# Altium footprint library 662002235922.PcbLib: 1 footprints
Each footprint in its own frame and in the unit in brackets; x right, y up, seen from the top. Pads: shape width x height; smd on the part's side, far side on the other; paste and mask are expansions set on the pad; w line width, h text height; cw(c..) or ccw(c..) is an arc to the next point about the centre after c.
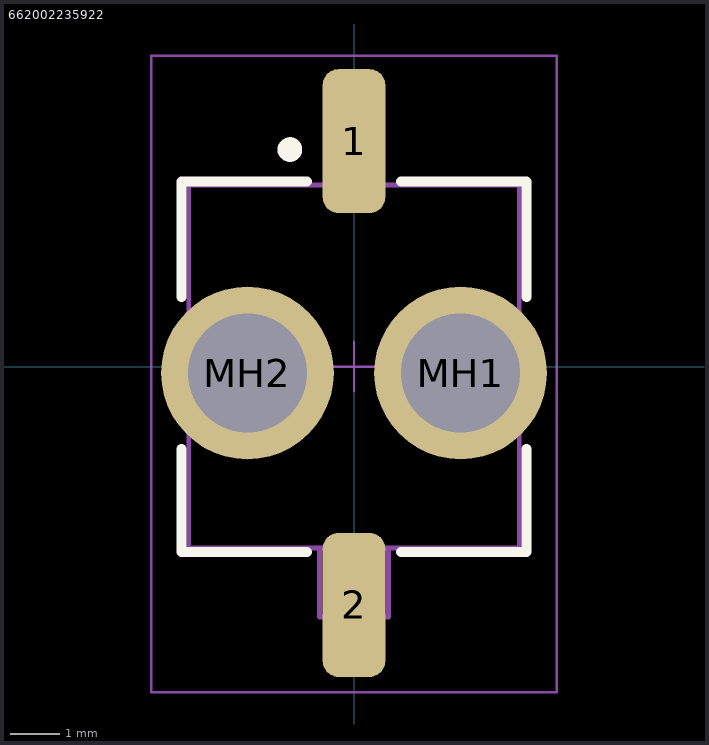
[diagram p0: the footprint, top view; thin cyan lines are the x and y axes]

## 662002235922 [mm]
pads (4):
  rrect50% 1.27x2.92 smd: 1(0,4.57) 2(0,-4.83)
  round 3.5 hole 2.41: MH1(2.16,-0.13) MH2(-2.16,-0.13)
Top Overlay:
  circle w0.25: c-1.3,4.4 r0.125
  lines w0.2: -3.5,-1.665 -3.5,-3.755 -0.95,-3.755 ; -3.5,1.405 -3.5,3.755 -0.95,3.755 ; 0.95,-3.755 3.5,-3.755 3.5,-1.665 ; 0.95,3.755 3.5,3.755 3.5,1.405
Top Assembly:
  lines w0.1: -0.7,-3.68 -0.7,-5.08 0.7,-5.08 0.7,-3.68 ; -3.35,-3.68 -3.35,3.68 3.35,3.68 3.35,-3.68 -3.35,-3.68
Top Courtyard:
  lines w0.05: -0.5,0 0.5,0 ; 0,-0.5 0,0.5 ; -4.11,-6.6 4.11,-6.6 4.11,6.3 -4.11,6.3 -4.11,-6.6
3D body "662002235922.stp": height 9.92, standoff -3.08, extent -3.35,-5.95 3.35,5.45